# Altium integrated library 四位一体数码管.IntLib: 1 symbol
Pins are listed as number, name and electrical type; pins without a type are passive.

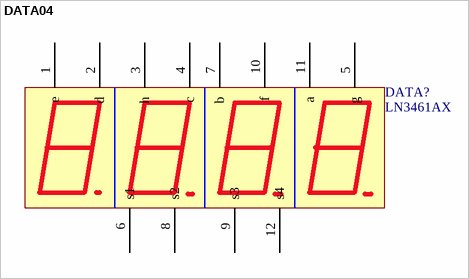
[diagram p0: symbol DATA04]

## DATA04
designator DATA?, comment LN3461AX
data?
footprint data04
footprint DATA4
footprint DIP12:DISP2
pins: 1 e, 2 d, 3 h, 4 c, 5 g, 6 s1, 7 b, 8 s2, 9 s3, 10 f, 11 a, 12 s4
2 alternate drawings of the same symbol